# Altium footprint library BGA-14.PcbLib: 1 footprints
Each footprint in its own frame and in the unit in brackets; x right, y up, seen from the top. Pads: shape width x height; smd on the part's side, far side on the other; paste and mask are expansions set on the pad; w line width, h text height; cw(c..) or ccw(c..) is an arc to the next point about the centre after c.
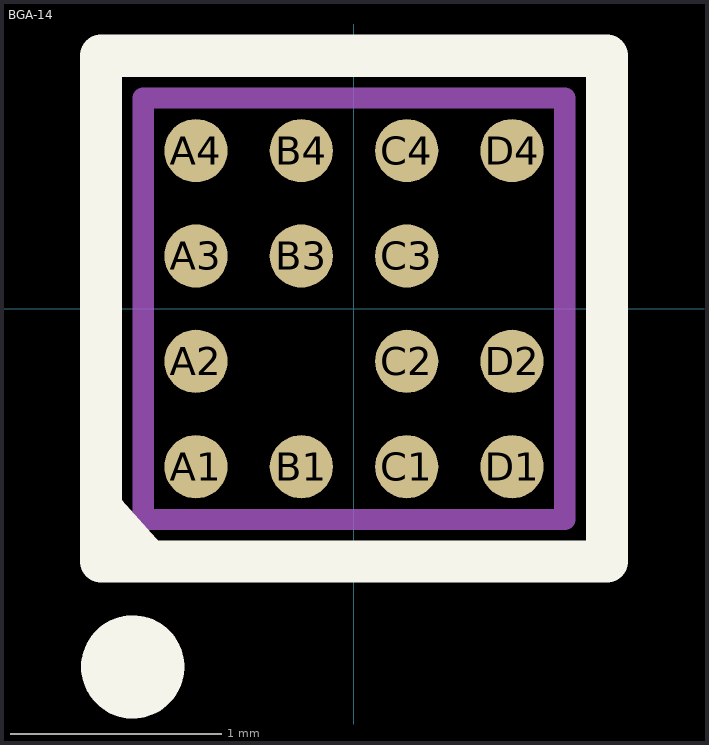
[diagram p0: the footprint, top view; thin cyan lines are the x and y axes]

## BGA-14 [mm]
pads (14):
  round 0.3 smd mask+0.051: A1(-0.75,-0.75) A2(-0.75,-0.25) A3(-0.75,0.25) A4(-0.75,0.75) B1(-0.25,-0.75) B3(-0.25,0.25) B4(-0.25,0.75) C1(0.25,-0.75) C2(0.25,-0.25) C3(0.25,0.25) C4(0.25,0.75) D1(0.75,-0.75) D2(0.75,-0.25) D4(0.75,0.75)
Top Overlay:
  circle w0.25: c-1.05,-1.7 r0.12
  lines w0.2: -1.175,-0.975 -0.975,-1.2 ; -1.2,-1.2 1.2,-1.2 1.2,1.2 -1.2,1.2 -1.2,-1.2
Mechanical 13:
  lines w0.1: -1,-1 1,-1 1,1 -1,1 -1,-1